# EAGLE library part SN74HC373PWR (library SN74HC373PWR)
Octal Transparent D-Type Latches With 3-State Outputs Source: Datasheet <http://www.ti.com/lit/gpn/sn74hc373>
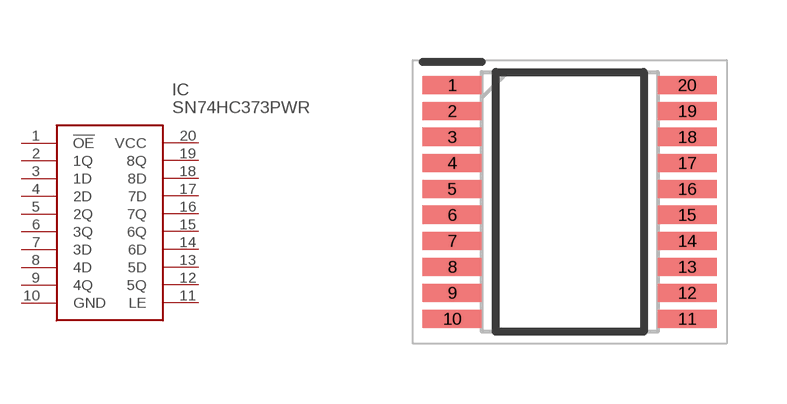
[diagram p0: symbol with the pads of SOP65P640X120-20N; footprint SOP65P640X120-20N]

Designator prefix IC

## SN74HC373PWR (DESCRIPTION: Octal Transparent D-Type Latches With 3-State Outputs; HEIGHT: 1.2mm; MANUFACTURER_NAME: Texas Instruments; MANUFACTURER_PART_NUMBER: SN74HC373PWR; MOUSER_PART_NUMBER: 595-SN74HC373PWR; MOUSER_PRICE-STOCK: https://www.mouser.co.uk/ProductDetail/Texas-Instruments/SN74HC373PWR?qs=EIjG%252BN7kn%252BltZC%2F8eHCguw%3D%3D)  [SOP65P640X120-20N]
1  !OE
2  1Q
3  1D
4  2D
5  2Q
6  3Q
7  3D
8  4D
9  4Q
10  GND
11  LE
12  5Q
13  5D
14  6D
15  6Q
16  7Q
17  7D
18  8D
19  8Q
20  VCC

## Footprint SOP65P640X120-20N (pad centres in mm)
PW (R-PDSO-G20)
smd 1.475 x 0.45: 1 -2.938,2.925; 2 -2.938,2.275; 3 -2.938,1.625; 4 -2.938,0.975; 5 -2.938,0.325; 6 -2.938,-0.325; 7 -2.938,-0.975; 8 -2.938,-1.625; 9 -2.938,-2.275; 10 -2.938,-2.925; 11 2.938,-2.925; 12 2.938,-2.275; 13 2.938,-1.625; 14 2.938,-0.975; 15 2.938,-0.325; 16 2.938,0.325; 17 2.938,0.975; 18 2.938,1.625; 19 2.938,2.275; 20 2.938,2.925